# EAGLE library part MICROFIT6 (library unicorn)
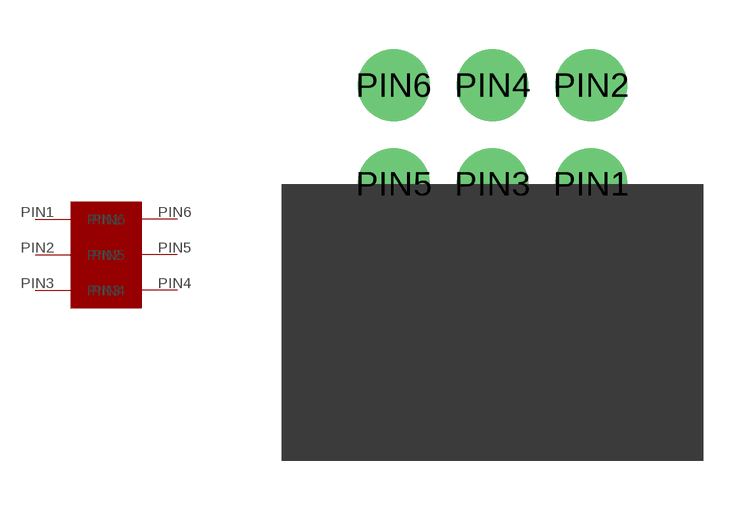
[diagram p1: symbol with the pads of MICROFIT6SOCK; footprint MICROFIT6SOCK]

Designator prefix -

## MICROFIT6  [MICROFIT6SOCK]
PIN1  PIN1
PIN2  PIN2
PIN3  PIN3
PIN4  PIN4
PIN5  PIN5
PIN6  PIN6

## Footprint MICROFIT6SOCK (pad centres in mm)
drill 1 pad 2.184: PIN1 3,-1.5; PIN2 3,1.5; PIN3 0,-1.5; PIN4 0,1.5; PIN5 -3,-1.5; PIN6 -3,1.5
hole 3 at 0,-5.8